# Altium footprint library transistor-pnp.PCBLIB: 37 footprints (part 3 of 3)
Each footprint in its own frame and in the unit in brackets; x right, y up, seen from the top. Pads: shape width x height; smd on the part's side, far side on the other; paste and mask are expansions set on the pad; w line width, h text height; cw(c..) or ccw(c..) is an arc to the next point about the centre after c.
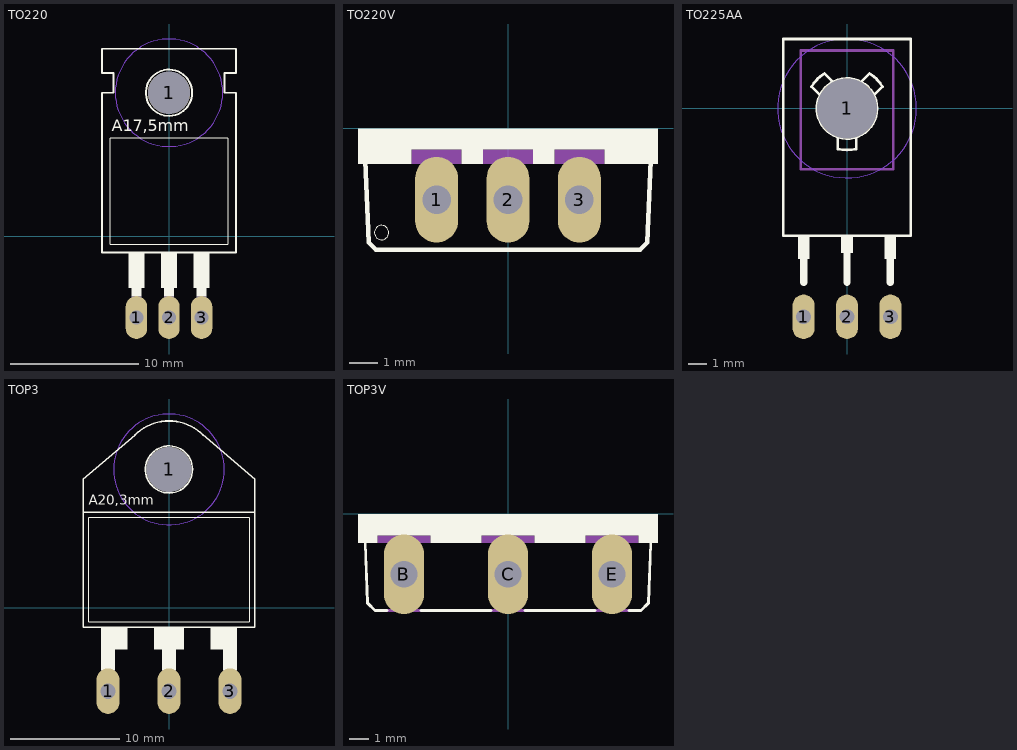
[diagram p2: the footprints below, top view; thin cyan lines are the x and y axes]

## TO220 [mil]
pads (4):
  oval 66x132 hole 44: 1(-100,-250) 2(0,-250) 3(100,-250)
  round 130 hole 130: 1(0,440)
Bottom Layer keep-out:
  circle w0: c0,440 r165
Top Overlay:
  circle w6: c0,440 r71
  rectangle: 85,-185 115,-160
  rectangle: -15,-185 15,-160
  rectangle: -115,-185 -85,-160
  rectangle: -125,-160 -75,-50
  rectangle: -25,-160 25,-50
  rectangle: 75,-160 125,-50
  lines w2: -180,-25 180,-25 180,300 -180,300 -180,-25
  lines w6: -205,-50 205,-50 205,440 170,440 170,500 205,500 205,575 -205,575 -205,500 -170,500 -170,440 -205,440 -205,-50
  text "A17,5mm" at -175,310 h62
Mechanical 16:
  rectangle: -115,-260 -85,-185
  rectangle: -15,-260 15,-185
  rectangle: 85,-260 115,-185
  text "1" at -125,0 h77.5
  text "2" at -25,0 h77.5
  text "3" at 75,0 h77.5
Via Holes:
  circle w0: c0,440 r165

## TO220V [mil]
pads (3):
  oval 60x120 hole 40: 1(-100,-100) 2(0,-100) 3(100,-100)
Top Overlay:
  circle w0: c-177,-146 r10
  rectangle: -210,-30 210,0
  rectangle: -210,-50 -135,-30
  rectangle: -65,-50 -35,-30
  rectangle: 35,-50 65,-30
  rectangle: 135,-50 210,-30
  lines w6: -200,-45 -195,-160 -185,-170 185,-170 195,-160 200,-45
Mechanical 16:
  rectangle: -135,-50 -65,-30
  rectangle: -35,-50 35,-30
  rectangle: 65,-50 135,-30
  text "1" at -125,-125 h77.5
  text "2" at -25,-125 h77.5
  text "3" at 75,-125 h77.5

## TO225AA [mil]
pads (4):
  oval 48x96 hole 32: 1(-93.75,-450) 2(0,-450) 3(93.75,-450)
  round 130 hole 130: 1(0,0)
Bottom Layer keep-out:
  circle w0: c0,0 r150
Top Overlay:
  circle w6: c0,0 r65
  rectangle: -106.25,-325 -81.25,-275
  rectangle: 81.25,-325 106.25,-275
  rectangle: -12.5,-312.5 12.5,-275
  lines w6: -58.23,28.9 -76.73,47.01 cw(c0.01,0) -48.78,75.62 ; -48.78,75.63 -30.28,57.52 ; -20,-61.85 -20,-87.76 ccw(c0,-0.01) 20,-87.76 20,-61.85 ; 30.28,57.52 48.78,75.63 cw(c-0.01,0.01) 76.73,47.02 58.23,28.9 ; -137.5,-275 -137.5,150 137.5,150 137.5,-275 -137.5,-275
  lines w16: -93.74,-375 -93.75,-318.75 ; 0,-375 0,-306.26 ; 93.74,-375 93.74,-318.74
Mechanical 16:
  lines w6: -100,-131.26 -100,125 100,125 100,-131.26 -100,-131.26
  text "1" at -106.25,-262.5 h77.5
  text "2" at -18.75,-262.5 h77.5
  text "3" at 75,-262.5 h77.5
Via Holes:
  circle w0: c0,0 r150

## TOP3 [mil]
pads (4):
  oval 82.5x165 hole 55: 1(-220,-300) 2(0,-300) 3(220,-300)
  round 162 hole 162: 1(0,500)
Bottom Layer keep-out:
  circle w0: c0,500 r200
Top Overlay:
  circle w6: c0,500 r85
  rectangle: -245,-150 -150,-70
  rectangle: -55,-150 55,-70
  rectangle: 150,-150 245,-70
  rectangle: -245,-225 -195,-150
  rectangle: -25,-225 25,-150
  rectangle: 195,-225 245,-150
  lines w2: -290,-50 290,-50 290,325 -290,325 -290,-50
  lines w6: -123.74,623.74 cw(c0.01,500) 0,675 cw(c-0.01,500) 123.74,623.74 ; -123,624 -310,465 -310,345 ; 123,625 310,465 310,345 ; -310,345 -310,-70 310,-70 310,345 ; -310,345 310,345
  text "A20,3mm" at -290,360 h62
Mechanical 16:
  rectangle: -245,-300 -195,-225
  rectangle: -25,-300 25,-225
  rectangle: 195,-300 245,-225
  text "1" at -225,-25 h77.5
  text "2" at -25,-25 h77.5
  text "3" at 175,-25 h77.5
Via Holes:
  circle w0: c0,500 r200

## TOP3V [mil]
pads (3):
  oval 82.5x165 hole 55: B(-215,-125) C(0,-125) E(215,-125)
Top Overlay:
  rectangle: -310,-45 310,0
  rectangle: -310,-60 -270,-45
  rectangle: -160,-60 -55,-45
  rectangle: 55,-60 160,-45
  rectangle: 270,-60 310,-45
  lines w6: -295,-60 -290,-185 -275,-200 -250,-200 ; -180,-200 -35,-200 ; 35,-200 180,-200 ; 250,-200 275,-200 290,-185 295,-60
Mechanical 16:
  rectangle: -270,-60 -160,-45
  rectangle: -55,-60 55,-45
  rectangle: 160,-60 270,-45
  lines w6: -250,-200 -180,-200 ; -35,-200 35,-200 ; 180,-200 250,-200
  text "B" at -240,-175 h77.5
  text "C" at -25,-175 h77.5
  text "E" at 190,-175 h77.5